# Altium schematic symbol library IC.SchLib: 12 symbols
Pins are listed as number, name and electrical type; pins without a type are passive.

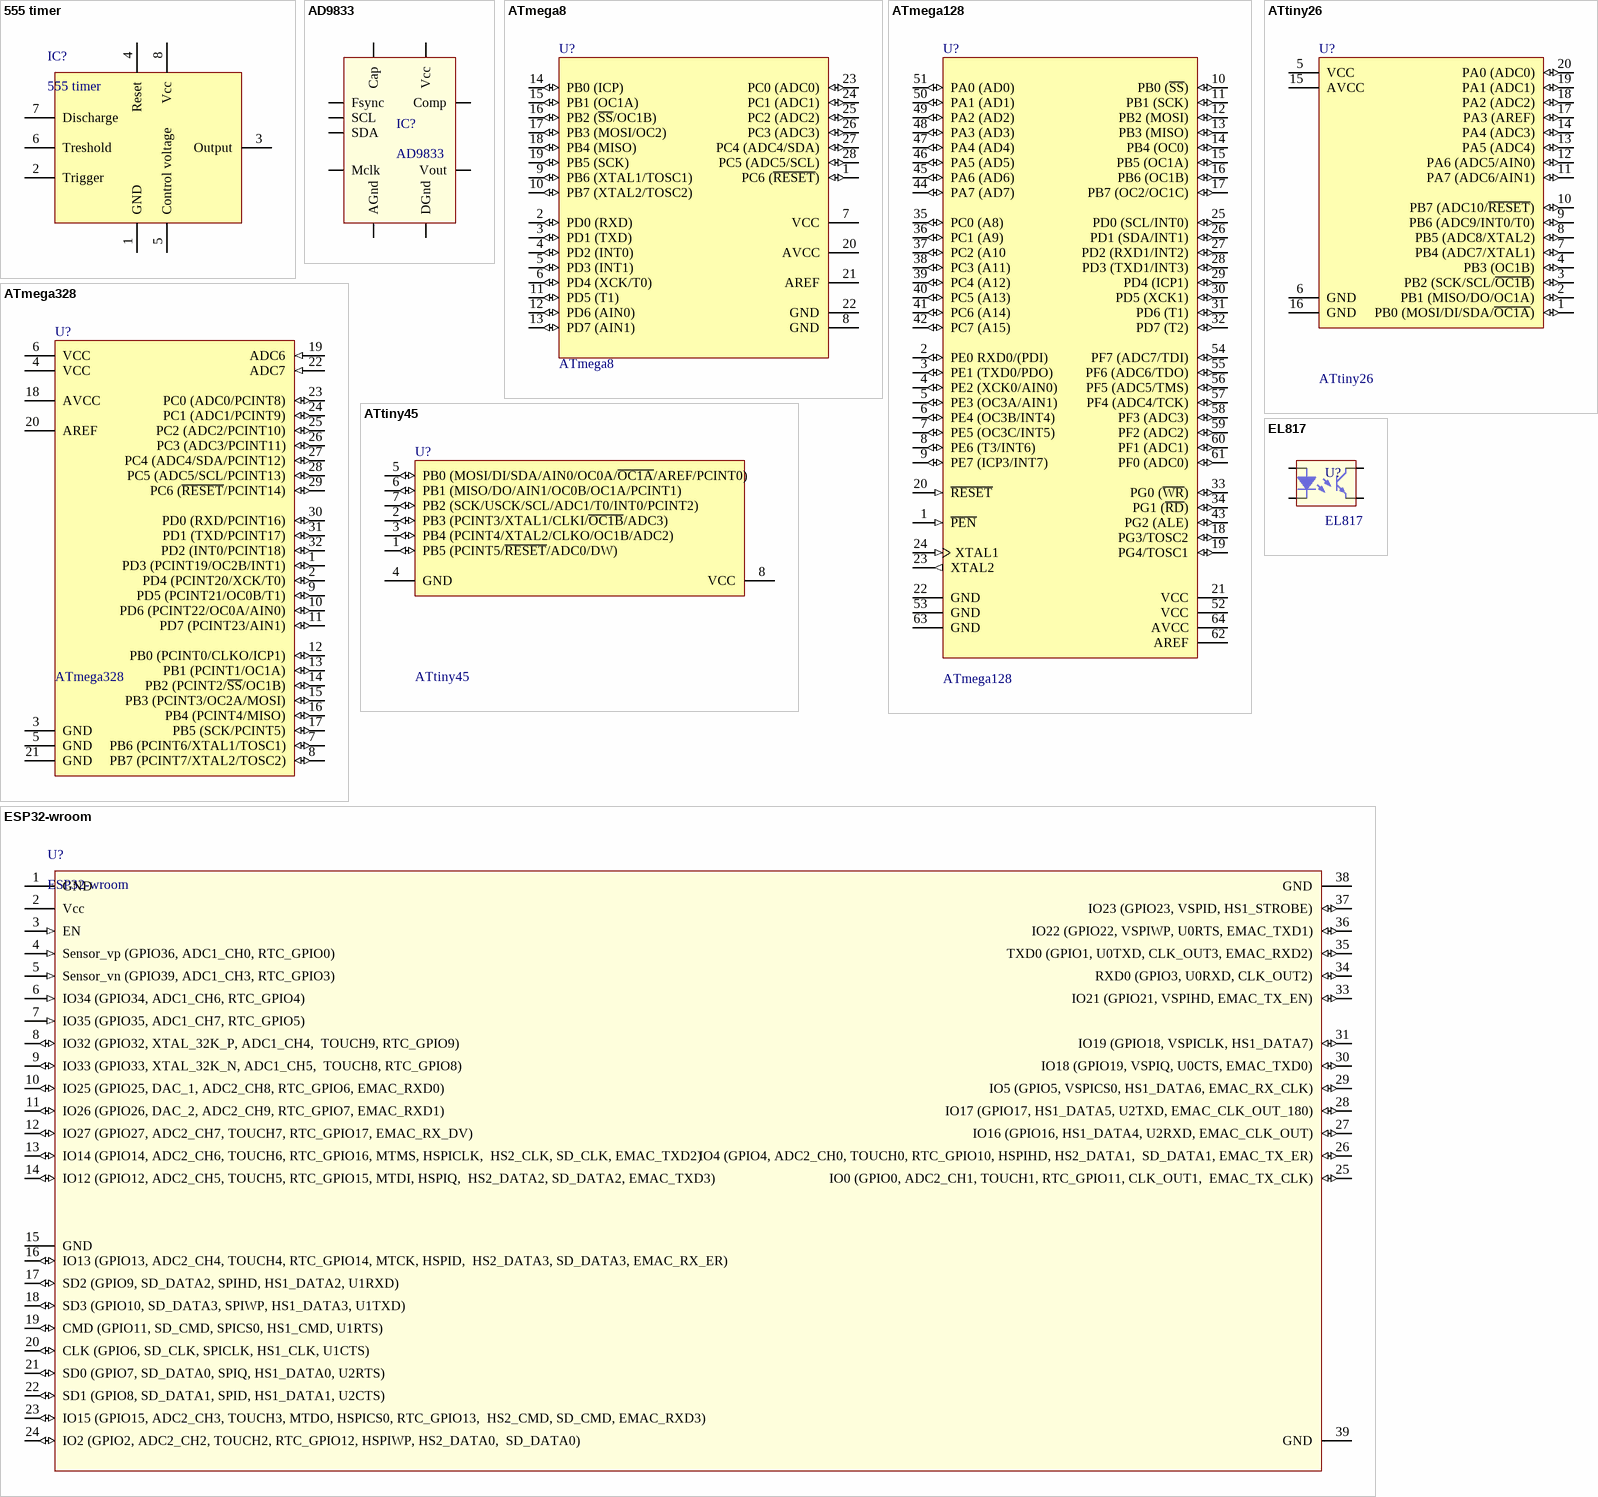
[diagram p0: symbols 555 timer to ESP32-wroom]

## 555 timer
designator IC?
Timer
footprint DIP 8 (DIP; 8 Leads; Row Spacing 7.62 mm; Pitch 2.54 mm)
pins: 1 GND, 2 Trigger, 3 Output, 4 Reset, 5 Control voltage, 6 Treshold, 7 Discharge, 8 Vcc

## AD9833
designator IC?
Waveform generator; Manufacturer: Analog Devices; Manufacturer Part Number: AD9833BRMZ; IC Function: Direct Digital Synthesizer; Supply Voltage Min: 2.3V; Supply Voltage Max: 5.5V; IC Package Type: MSOP; No. of Pins: 10Pins; Product Range: AD9833 Series; SVHC: No SVHC (17-Dec-2015); Supplier 1: Farnell; Stock 1: 10398; Pricing 1: 1=8.69, 10=7.22, 25=6.79, 50=6.39, 100=6.07, 250=5.23 (EUR); Operating Temperature Min: -40°C; Operating Temperature Max: 105°C; Packaging: Each; Automotive Qualification Standard: -; MSL: MSL 1 - Unlimited; ComponentLink1URL: https://datasheet.ciiva.com/15100/getdatasheetpartid-214870-15100565.pdf; ComponentLink1Description: https://datasheet.ciiva.com/15100/getdatasheetpartid-214870-15100565.pdf; ComponentLink2URL: https://datasheet.ciiva.com/1166/11131-1166700.pdf; ComponentLink2Description: https://datasheet.ciiva.com/1166/11131-1166700.pdf; ComponentLink3URL: https://datasheet.ciiva.com/26828/ad9833brmz-26828209.pdf; ComponentLink3Description: https://datasheet.ciiva.com/26828/ad9833brmz-26828209.pdf; ComponentLink4URL: https://datasheet.ciiva.com/25889/ad9833-25889544.pdf; ComponentLink4Description: https://datasheet.ciiva.com/25889/ad9833-25889544.pdf; ComponentLink5URL: https://datasheet.ciiva.com/1166/1790129-1166699.pdf; ComponentLink5Description: https://datasheet.ciiva.com/1166/1790129-1166699.pdf; ComponentLink6URL: https://datasheet.ciiva.com/1699/ad9833-1699598.pdf; ComponentLink6Description: https://datasheet.ciiva.com/1699/ad9833-1699598.pdf; ComponentLink7URL: https://datasheet.ciiva.com/3177/ad9833-3177326.pdf; ComponentLink7Description: https://datasheet.ciiva.com/3177/ad9833-3177326.pdf; ComponentLink8URL: https://datasheet.ciiva.com/48710/001248190-da-01-en-ic-waveform-gener-ad9833brmz-msop-10-adi-48710442.pdf; ComponentLink8Description: https://datasheet.ciiva.com/48710/001248190-da-01-en-ic-waveform-gener-ad9833brmz-msop-10-adi-48710442.pdf; Supplier Part Number 1: 1581966
footprint MSOP-10 (MSOP, 10-Leads, Body 3.00x3.00mm, Pitch 0.50mm, IPC Medium Density)
pins: 1 Comp, 2 Vcc, 3 Cap, 4 DGnd, 5 Mclk, 6 SDA, 7 SCL, 8 Fsync, 9 AGnd, 10 Vout

## ATmega8
designator U?
8-bit AVR Microcontroller, 8KB Flash, 512 Bytes EEPROM, 1KB SRAM, Industrial Grade (-40°C to 85°C); Published: 1-Apr-2010; DatasheetVersion: revC, Jul-2009; PackageVersion: revB, Sep-2001; PackageReference: 28P3; Publisher: Altium Limited; PackageDescription: 28-lead (0.300"/7.62mm Wide) Plastic Dual Inline Package (PDIP); Supplier 1: Digi-Key; Supplier Part Number 1: ATMEGA8A-PU-ND; Supplier 2: Farnell; Supplier Part Number 2: 1748534; Supplier 3: Mouser; Supplier Part Number 3: 556-ATMEGA8A-PU; ComponentLink1Description: Manufacturer Link; ComponentLink1URL: http://www.atmel.com/products/avr/default.asp?; ComponentLink2Description: ATmega8A Datasheet; ComponentLink2URL: http://www.atmel.com/dyn/resources/prod_documents/doc8159.pdf; ComponentLink3Description: ATmega8A Summary; ComponentLink3URL: http://www.atmel.com/dyn/resources/prod_documents/8159S.pdf; ComponentLink4Description: Atmel.com Home; ComponentLink4URL: http://www.atmel.com
footprint DIP 28 (DIP; 28 Leads; Row Spacing 15.24 mm; Pitch 2.54 mm)
pins: 1 PC6 (~{RESET}) (io), 2 PD0 (RXD) (io), 3 PD1 (TXD) (io), 4 PD2 (INT0) (io), 5 PD3 (INT1) (io), 6 PD4 (XCK/T0) (io), 7 VCC (power), 8 GND (power), 9 PB6 (XTAL1/TOSC1) (io), 10 PB7 (XTAL2/TOSC2) (io), 11 PD5 (T1) (io), 12 PD6 (AIN0) (io), 13 PD7 (AIN1) (io), 14 PB0 (ICP) (io), 15 PB1 (OC1A) (io), 16 PB2 (~{SS}/OC1B) (io), 17 PB3 (MOSI/OC2) (io), 18 PB4 (MISO) (io), 19 PB5 (SCK) (io), 20 AVCC (power), 21 AREF, 22 GND (power), 23 PC0 (ADC0) (io), 24 PC1 (ADC1) (io), 25 PC2 (ADC2) (io), 26 PC3 (ADC3) (io), 27 PC4 (ADC4/SDA) (io), 28 PC5 (ADC5/SCL) (io)

## ATmega128
designator U?
8-bit AVR Microcontroller, 128KB Flash, 4KB EEPROM, 4KB SRAM, Industrial Grade (-40°C to 85°C); Published: 1-Apr-2010; DatasheetVersion: revE, Feb-2010; PackageVersion: revB, Oct-2001; PackageReference: 64A; Publisher: Altium Limited; PackageDescription: 64-Pin Plastic Thin Profile Quad Flat Pack, 14 x 14 x 1.0 mm Body, 0.8 mm Pitch (TQFP); Supplier 1: Digi-Key; Supplier Part Number 1: ATMEGA128A-AU-ND; Supplier 2: Farnell; Supplier Part Number 2: 1773397; Supplier 3: Mouser; Supplier Part Number 3: 556-ATMEGA128A-AU; Code_JEDEC: MS-026-AEB; ComponentLink1Description: Manufacturer Link; ComponentLink1URL: http://www.atmel.com/products/avr/default.asp?; ComponentLink2Description: ATmega128A Datasheet; ComponentLink2URL: http://www.atmel.com/dyn/resources/prod_documents/doc8151.pdf; ComponentLink3Description: ATmega128A Summary; ComponentLink3URL: http://www.atmel.com/dyn/resources/prod_documents/8151S.pdf; ComponentLink4Description: Atmel.com Home; ComponentLink4URL: http://www.atmel.com
footprint LQFP-64 14x14mm (Thin QFP, 64-Leads, Body 14x14mm, Pitch 0.8mm, IPC Medium Density)
pins: 1 ~{PEN} (in), 2 PE0 RXD0/(PDI) (io), 3 PE1 (TXD0/PDO) (io), 4 PE2 (XCK0/AIN0) (io), 5 PE3 (OC3A/AIN1) (io), 6 PE4 (OC3B/INT4) (io), 7 PE5 (OC3C/INT5) (io), 8 PE6 (T3/INT6) (io), 9 PE7 (ICP3/INT7) (io), 10 PB0 (~{SS}) (io), 11 PB1 (SCK) (io), 12 PB2 (MOSI) (io), 13 PB3 (MISO) (io), 14 PB4 (OC0) (io), 15 PB5 (OC1A) (io), 16 PB6 (OC1B) (io), 17 PB7 (OC2/OC1C) (io), 18 PG3/TOSC2 (io), 19 PG4/TOSC1 (io), 20 ~{RESET} (in), 21 VCC (power), 22 GND (power), 23 XTAL2 (out), 24 XTAL1 (in), 25 PD0 (SCL/INT0) (io), 26 PD1 (SDA/INT1) (io), 27 PD2 (RXD1/INT2) (io), 28 PD3 (TXD1/INT3) (io), 29 PD4 (ICP1) (io), 30 PD5 (XCK1) (io), 31 PD6 (T1) (io), 32 PD7 (T2) (io), 33 PG0 (~{WR}) (io), 34 PG1 (~{RD}) (io), 35 PC0 (A8) (io), 36 PC1 (A9) (io), 37 PC2 (A10 (io), 38 PC3 (A11) (io), 39 PC4 (A12) (io), 40 PC5 (A13) (io), 41 PC6 (A14) (io), 42 PC7 (A15) (io), 43 PG2 (ALE) (io), 44 PA7 (AD7) (io), 45 PA6 (AD6) (io), 46 PA5 (AD5) (io), 47 PA4 (AD4) (io), 48 PA3 (AD3) (io), 49 PA2 (AD2) (io), 50 PA1 (AD1) (io), 51 PA0 (AD0) (io), 52 VCC (power), 53 GND (power), 54 PF7 (ADC7/TDI) (io), 55 PF6 (ADC6/TDO) (io), 56 PF5 (ADC5/TMS) (io), 57 PF4 (ADC4/TCK) (io), 58 PF3 (ADC3) (io), 59 PF2 (ADC2) (io), 60 PF1 (ADC1) (io), 61 PF0 (ADC0) (io), 62 AREF (power), 63 GND (power), 64 AVCC (power)

## ATmega328
designator U?
8-bit AVR Microcontroller, 32KB Flash, 1KB EEPROM, 2KB SRAM, Industrial Grade (-40°C to 85°C); Published: 1-Apr-2010; DatasheetVersion: revA, Jan-2010; PackageVersion: revB, Oct-2001; PackageReference: 32A; Publisher: Altium Limited; PackageDescription: 32-Lead, 7x7x1.0 mm Body, 0.8mm Lead Pitch, Thin Profile Plastic Quad Flat Package (TQFP); Supplier 1: Digi-Key; Supplier Part Number 1: ATMEGA328-AU-ND; Supplier 2: Mouser; Supplier Part Number 2: 556-ATMEGA328-AU; Code_JEDEC: MS-026-ABA; ComponentLink1Description: Manufacturer Link; ComponentLink1URL: http://www.atmel.com/products/avr/default.asp?; ComponentLink2Description: ATmega48A/48PA/88A/88PA/168A/168PA/328/328P Datasheet; ComponentLink2URL: http://www.atmel.com/dyn/resources/prod_documents/8271.pdf; ComponentLink3Description: ATmega48A/48PA/88A/88PA/168A/168PA/328/328P Summary; ComponentLink3URL: http://www.atmel.com/dyn/resources/prod_documents/8271S.pdf; ComponentLink4Description: Atmel.com Home; ComponentLink4URL: http://www.atmel.com
footprint LQFP-32 7X7MM (LQFP, 32-Leads, Body 7.00x7.00mm, Pitch 0.80mm, IPC Medium Density)
pins: 1 PD3 (PCINT19/OC2B/INT1) (io), 2 PD4 (PCINT20/XCK/T0) (io), 3 GND (power), 4 VCC (power), 5 GND (power), 6 VCC (power), 7 PB6 (PCINT6/XTAL1/TOSC1) (io), 8 PB7 (PCINT7/XTAL2/TOSC2) (io), 9 PD5 (PCINT21/OC0B/T1) (io), 10 PD6 (PCINT22/OC0A/AIN0) (io), 11 PD7 (PCINT23/AIN1) (io), 12 PB0 (PCINT0/CLKO/ICP1) (io), 13 PB1 (PCINT1/OC1A) (io), 14 PB2 (PCINT2/~{SS}/OC1B) (io), 15 PB3 (PCINT3/OC2A/MOSI) (io), 16 PB4 (PCINT4/MISO) (io), 17 PB5 (SCK/PCINT5) (io), 18 AVCC (power), 19 ADC6 (in), 20 AREF, 21 GND (power), 22 ADC7 (in), 23 PC0 (ADC0/PCINT8) (io), 24 PC1 (ADC1/PCINT9) (io), 25 PC2 (ADC2/PCINT10) (io), 26 PC3 (ADC3/PCINT11) (io), 27 PC4 (ADC4/SDA/PCINT12) (io), 28 PC5 (ADC5/SCL/PCINT13) (io), 29 PC6 (~{RESET}/PCINT14) (io), 30 PD0 (RXD/PCINT16) (io), 31 PD1 (TXD/PCINT17) (io), 32 PD2 (INT0/PCINT18) (io)

## ATtiny26
designator U?
8-bit AVR Microcontroller, 4.5-5.5V, 2KB Flash, 128 Bytes EEPROM, 128 Bytes SRAM, Industrial Grade (-40°C to 85°C), Pb-Free; Published: 1-Apr-2010; DatasheetVersion: revJ, Jun-2007; PackageVersion: revC, Jan-2004; PackageReference: 20P3; Publisher: Altium Limited; PackageDescription: 20-lead (0.300"/7.62mm Wide) Plastic Dual Inline Package (PDIP); Supplier 1: Digi-Key; Supplier Part Number 1: ATTINY26-16PU-ND; Supplier 2: Farnell; Supplier Part Number 2: 9171630; Supplier 3: Mouser; Supplier Part Number 3: 556-ATTINY26-16PU; Code_JEDEC: MS-001-AD; ComponentLink1Description: Manufacturer Link; ComponentLink1URL: http://www.atmel.com/products/avr/default.asp?; ComponentLink2Description: ATtiny26(L) Datasheet; ComponentLink2URL: http://www.atmel.com/dyn/resources/prod_documents/doc1477.pdf; ComponentLink3Description: ATtiny26(L) Summary; ComponentLink3URL: http://www.atmel.com/dyn/resources/prod_documents/1477S.pdf; ComponentLink4Description: Atmel.com Home; ComponentLink4URL: http://www.atmel.com
footprint DIP 20 (DIP; 20 Leads; Row Spacing 7.62 mm; Pitch 2.54 mm)
pins: 1 PB0 (MOSI/DI/SDA/~{OC1A}) (io), 2 PB1 (MISO/DO/OC1A) (io), 3 PB2 (SCK/SCL/~{OC1B}) (io), 4 PB3 (OC1B) (io), 5 VCC (power), 6 GND (power), 7 PB4 (ADC7/XTAL1) (io), 8 PB5 (ADC8/XTAL2) (io), 9 PB6 (ADC9/INT0/T0) (io), 10 PB7 (ADC10/~{RESET}) (io), 11 PA7 (ADC6/AIN1) (io), 12 PA6 (ADC5/AIN0) (io), 13 PA5 (ADC4) (io), 14 PA4 (ADC3) (io), 15 AVCC (power), 16 GND (power), 17 PA3 (AREF) (io), 18 PA2 (ADC2) (io), 19 PA1 (ADC1) (io), 20 PA0 (ADC0) (io)

## ATtiny45
designator U?
Low Power tinyAVR® 8-Bit Microcontroller, 4K Flash Memory, 20MHz, Industrial Temperature, Pb-Free; Published: 20-Nov-2009; DatasheetVersion: DOC2586I, May-2008; PackageVersion: revB, Jan-2002; PackageReference: 8P3; Publisher: Altium Limited; PackageDescription: 8-Lead, 0.300" Wide Body, Plastic Dual In-Line Package (PDIP); Supplier 1: Digi-Key; Supplier Part Number 1: ATTINY45-20PU-ND; Supplier 2: Farnell; Supplier Part Number 2: 1288352; Supplier 3: Mouser; Supplier Part Number 3: 556-ATTINY45-20PU; Code_JEDEC: MS-001-BA; ComponentLink1Description: Manufacturer Link; ComponentLink1URL: http://www.atmel.com/products/AVR/tinyavr.asp?; ComponentLink2Description: Datasheet; ComponentLink2URL: http://www.atmel.com/dyn/resources/prod_documents/doc2586.pdf; ComponentLink3Description: Atmel.com Home; ComponentLink3URL: http://www.atmel.com
footprint DIP 8 (DIP; 8 Leads; Row Spacing 7.62 mm; Pitch 2.54 mm)
pins: 1 PB5 (PCINT5/~{RESET}/ADC0/DW) (io), 2 PB3 (PCINT3/XTAL1/CLKI/~{OC1B}/ADC3) (io), 3 PB4 (PCINT4/XTAL2/CLKO/OC1B/ADC2) (io), 4 GND (power), 5 PB0 (MOSI/DI/SDA/AIN0/OC0A/~{OC1A}/AREF/PCINT0) (io), 6 PB1 (MISO/DO/AIN1/OC0B/OC1A/PCINT1) (io), 7 PB2 (SCK/USCK/SCL/ADC1/T0/INT0/PCINT2) (io), 8 VCC (power)

## EL817
designator U?
Photocoupler
footprint DIP 4 (DIP; 4 Leads; Row Spacing 7.62 mm; Pitch 2.54 mm)
pins: 1, 2, 3, 4

## ESP32-wroom
designator U?
Generic MCU module; Manufacturer: Espressif Systems; Manufacturer Part Number: ESP32-WROOM-32; Categories: RF/IF and RFID; Supplier 1: Avnet Europe; Stock 1: 0; Series: *; Packaging: Digi-Reel®; Part Status: Active; Supplier 2: SOS electronic; Stock 2: 962; Pricing 2: 1=4.41, 10=4.06, 50=3.83, 100=3.72 (EUR); Supplier Part Number 1: ESP-WROOM-32; Supplier Part Number 2: ESP32-WROOM-32D
footprint ESP32-WROOM-32
pins: 1 GND, 2 Vcc, 3 EN (in) "Module-enable signal. Active high", 4 Sensor_vp (GPIO36, ADC1_CH0, RTC_GPIO0) (in), 5 Sensor_vn (GPIO39, ADC1_CH3, RTC_GPIO3) (in), 6 IO34 (GPIO34, ADC1_CH6, RTC_GPIO4) (in), 7 IO35 (GPIO35, ADC1_CH7, RTC_GPIO5) (in), 8 IO32 (GPIO32, XTAL_32K_P, ADC1_CH4,  TOUCH9, RTC_GPIO9) (io), 9 IO33 (GPIO33, XTAL_32K_N, ADC1_CH5,  TOUCH8, RTC_GPIO8) (io), 10 IO25 (GPIO25, DAC_1, ADC2_CH8, RTC_GPIO6, EMAC_RXD0) (io), 11 IO26 (GPIO26, DAC_2, ADC2_CH9, RTC_GPIO7, EMAC_RXD1) (io), 12 IO27 (GPIO27, ADC2_CH7, TOUCH7, RTC_GPIO17, EMAC_RX_DV) (io), 13 IO14 (GPIO14, ADC2_CH6, TOUCH6, RTC_GPIO16, MTMS, HSPICLK,  HS2_CLK, SD_CLK, EMAC_TXD2) (io), 14 IO12 (GPIO12, ADC2_CH5, TOUCH5, RTC_GPIO15, MTDI, HSPIQ,  HS2_DATA2, SD_DATA2, EMAC_TXD3) (io), 15 GND (power), 16 IO13 (GPIO13, ADC2_CH4, TOUCH4, RTC_GPIO14, MTCK, HSPID,  HS2_DATA3, SD_DATA3, EMAC_RX_ER) (io), 17 SD2 (GPIO9, SD_DATA2, SPIHD, HS1_DATA2, U1RXD) (io), 18 SD3 (GPIO10, SD_DATA3, SPIWP, HS1_DATA3, U1TXD) (io), 19 CMD (GPIO11, SD_CMD, SPICS0, HS1_CMD, U1RTS) (io), 20 CLK (GPIO6, SD_CLK, SPICLK, HS1_CLK, U1CTS) (io), 21 SD0 (GPIO7, SD_DATA0, SPIQ, HS1_DATA0, U2RTS) (io), 22 SD1 (GPIO8, SD_DATA1, SPID, HS1_DATA1, U2CTS) (io), 23 IO15 (GPIO15, ADC2_CH3, TOUCH3, MTDO, HSPICS0, RTC_GPIO13,  HS2_CMD, SD_CMD, EMAC_RXD3) (io), 24 IO2 (GPIO2, ADC2_CH2, TOUCH2, RTC_GPIO12, HSPIWP, HS2_DATA0,  SD_DATA0) (io), 25 IO0 (GPIO0, ADC2_CH1, TOUCH1, RTC_GPIO11, CLK_OUT1,  EMAC_TX_CLK) (io), 26 IO4 (GPIO4, ADC2_CH0, TOUCH0, RTC_GPIO10, HSPIHD, HS2_DATA1,  SD_DATA1, EMAC_TX_ER) (io), 27 IO16 (GPIO16, HS1_DATA4, U2RXD, EMAC_CLK_OUT) (io), 28 IO17 (GPIO17, HS1_DATA5, U2TXD, EMAC_CLK_OUT_180) (io), 29 IO5 (GPIO5, VSPICS0, HS1_DATA6, EMAC_RX_CLK) (io), 30 IO18 (GPIO19, VSPIQ, U0CTS, EMAC_TXD0) (io), 31 IO19 (GPIO18, VSPICLK, HS1_DATA7) (io), 33 IO21 (GPIO21, VSPIHD, EMAC_TX_EN) (io), 34 RXD0 (GPIO3, U0RXD, CLK_OUT2) (io), 35 TXD0 (GPIO1, U0TXD, CLK_OUT3, EMAC_RXD2) (io), 36 IO22 (GPIO22, VSPIWP, U0RTS, EMAC_TXD1) (io), 37 IO23 (GPIO23, VSPID, HS1_STROBE) (io), 38 GND (power), 39 GND (power)

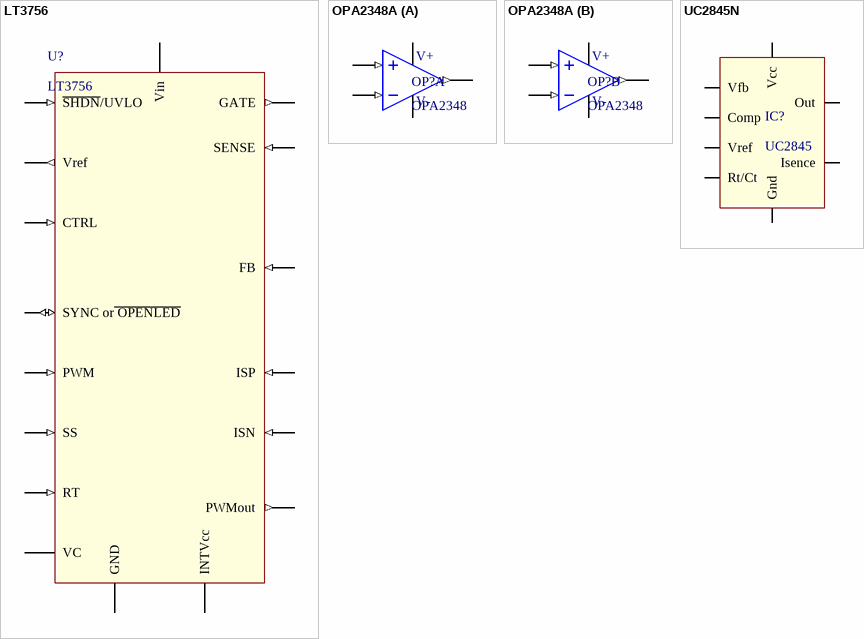
[diagram p1: symbols LT3756 to UC2845N]

## LT3756
designator U?
DC/DC controller; Manufacturer: Analog Devices / Linear Technology; Manufacturer Part Number: LT3756EMSE#PBF; Product Training Modules: LT3756 LED Controller; Featured Product: LED Controller; Constant Current: Yes; Topology: Flyback, Low Side, PWM, SEPIC, Step-Down (Buck), Step-Up (Boost); Number of Outputs: 1; Internal Driver: No; Type - Primary: Automotive, General Purpose; Type - Secondary: White LED; Frequency: 100kHz ~ 1MHz; Voltage - Supply: 6 V ~ 100 V; Voltage - Output: 100V; Dynamic Catalog: Buck – Boost; For Use With: DC1319B-A-ND / - BOARD EVAL LED DRIVER LT3756; Supplier 1: Farnell; Stock 1: 0; Standard Package: 37; Category: Integrated Circuits (ICs); Family: PMIC - LED Drivers; Series: -; Constant Voltage: Yes; Mounting Type: Surface Mount; Package / Case: 16-TFSOP (0.118", 3.00mm Width) Exposed Pad; Supplier Device Package: 16-MSOP, Exposed Pad; Packaging: Tube; Operating Temperature: -40°C ~ 125°C; ComponentLink1URL: https://www.verical.com/server-webapp/html/getDatasheet?partID=361724&src-supplier=Verical; ComponentLink1Description: https://www.verical.com/server-webapp/html/getDatasheet?partID=361724&src-supplier=Verical; ComponentLink2URL: http://www.farnell.com/datasheets/1684153.pdf?src-supplier=Farnell; ComponentLink2Description: http://www.farnell.com/datasheets/1684153.pdf?src-supplier=Farnell; ComponentLink3URL: http://www.linear.com/docs/26674?src-supplier=Digi-Key; ComponentLink3Description: http://www.linear.com/docs/26674?src-supplier=Digi-Key; ComponentLink4URL: http://www.farnell.com/datasheets/1684153.pdf?src-supplier=Element14; ComponentLink4Description: http://www.farnell.com/datasheets/1684153.pdf?src-supplier=Element14; Supplier Part Number 1: 1671916
footprint MSOP 16 (MSOP, 16-Leads, Body 4.00x3.00mm, Pitch 0.50mm, IPC Medium Density)
pins: 1 PWMout (out), 2 FB (in), 3 ISN (in), 4 ISP (in), 5 VC (power), 6 CTRL (in), 7 Vref (out), 8 PWM (in), 9 SYNC or~{ OPENLED} (io), 10 SS (in), 11 RT (in), 12 ~{SHDN}/UVLO (in), 13 INTVcc (power), 14 Vin (power), 15 SENSE (in), 16 GATE (out), 17 GND (power)

## OPA2348A
designator OP?, comment OPA2348
Dual OP
footprint SOIC 8 (8-Pin Small Outline Integrated Circuit Package (SOIC8), IPC Medium Density)
part A pins: 1 OUT (out), 2 IN- (in), 3 IN+ (in), 4 V- (power), 8 Vcc (power)
part B pins: 4 V- (power), 5 IN+ (in), 6 IN- (in), 7 OUT (out), 8 Vcc (power)
part A text: V+
part B text: V+

## UC2845N
designator IC?, comment UC2845
Current-Mode PWM Controller; Manufacturer: Texas Instruments; Manufacturer Part Number: UC2845N; Dynamic Catalog: Current Mode; Number of Outputs: 1; Frequency - Max: 500kHz; Duty Cycle: 100%; Voltage - Supply: 7.6 V ~ 30 V; Buck: No; Boost: Yes; Other Names: 296-11188-5; Supplier 1: Farnell; Stock 1: 0; Pricing 1: 1=2.36, 10=1.58, 100=1.3, 250=1.19 (GBP); PWM Type: Current Mode; Standard Package: 50; Category: Integrated Circuits (ICs); Family: PMIC - Voltage Regulators - DC DC Switching Controllers; Series: -; Packaging: Tube; Flyback: Yes; Inverting: No; Doubler: No; Divider: No; Cuk: No; Isolated: No; Operating Temperature: -40°C ~ 85°C; Package / Case: 8-DIP (0.300", 7.62mm); Supplier Device Package: 8-PDIP; Online Catalog: Current Mode; ComponentLink1URL: https://datasheet.ciiva.com/1573/uc2845-1573959.pdf; ComponentLink1Description: https://datasheet.ciiva.com/1573/uc2845-1573959.pdf; ComponentLink2URL: https://datasheet.ciiva.com/15108/getdatasheetpartid-245356-15108355.pdf; ComponentLink2Description: https://datasheet.ciiva.com/15108/getdatasheetpartid-245356-15108355.pdf; ComponentLink3URL: https://datasheet.ciiva.com/30507/0900766b80c92618-30507316.pdf; ComponentLink3Description: https://datasheet.ciiva.com/30507/0900766b80c92618-30507316.pdf; ComponentLink4URL: https://datasheet.ciiva.com/26891/uc2845n-26891272.pdf; ComponentLink4Description: https://datasheet.ciiva.com/26891/uc2845n-26891272.pdf; ComponentLink5URL: https://datasheet.ciiva.com/2020/uc3842-2020583.pdf; ComponentLink5Description: https://datasheet.ciiva.com/2020/uc3842-2020583.pdf; ComponentLink6URL: https://datasheet.ciiva.com/26246/slus223c-26246664.pdf; ComponentLink6Description: https://datasheet.ciiva.com/26246/slus223c-26246664.pdf; ComponentLink7URL: https://datasheet.ciiva.com/1513/uc2844-1513401.pdf; ComponentLink7Description: https://datasheet.ciiva.com/1513/uc2844-1513401.pdf; ComponentLink8URL: https://datasheet.ciiva.com/14188/slus223c-14188397.pdf; ComponentLink8Description: https://datasheet.ciiva.com/14188/slus223c-14188397.pdf; Supplier Part Number 1: 1703454
footprint DIP 8 (DIP; 8 Leads; Row Spacing 7.62 mm; Pitch 2.54 mm)
pins: 1 Comp, 2 Vfb, 3 Isence, 4 Rt/Ct, 5 Gnd, 6 Out, 7 Vcc, 8 Vref